# Altium footprint library L7.PcbLib: 6 footprints
Each footprint in its own frame and in the unit in brackets; x right, y up, seen from the top. Pads: shape width x height; smd on the part's side, far side on the other; paste and mask are expansions set on the pad; w line width, h text height; cw(c..) or ccw(c..) is an arc to the next point about the centre after c.
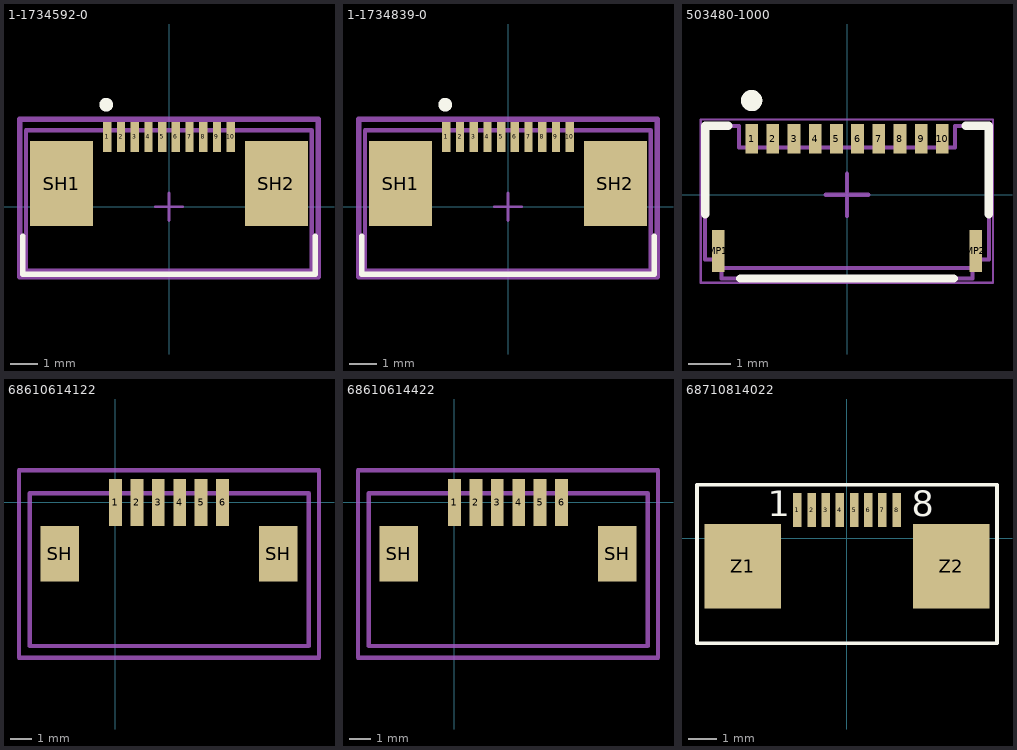
[diagram p0: the footprints below, top view; thin cyan lines are the x and y axes]

## 1-1734592-0 [mm] "TE Connectivity FC / FPC Board Connector, 0.5 mm, 10 Contacts, Receptacle, FPC Series, Surface Mount, Bottom"
pads (12):
  rect 0.3x1.1 smd paste+0 mask+0: 1(-2.25,2.55) 2(-1.75,2.55) 3(-1.25,2.55) 4(-0.75,2.55) 5(-0.25,2.55) 6(0.25,2.55) 7(0.75,2.55) 8(1.25,2.55) 9(1.75,2.55) 10(2.25,2.55)
  rect 2.3x3.1 smd paste+0 mask+0: SH1(-3.92,0.85) SH2(3.92,0.85)
Top Overlay:
  circle w0.25: c-2.29,3.725 r0.125
  lines w0.2: -5.34,-1.075 -5.34,-2.45 5.34,-2.45 5.34,-1.075
Assembly Top:
  lines w0.15: -5.215,-2.316 -5.215,2.794 5.207,2.794 5.207,-2.316 -5.215,-2.316
Courtyard Top:
  lines w0.1: -0.5,0 0.5,0 ; 0,-0.5 0,0.5
  lines w0.2: -5.44,-2.55 -5.44,3.2 5.44,3.2 5.44,-2.55 -5.44,-2.55
3D body "c-1-1734592-0-c-3d.stp": height 2.05, standoff 0, extent -5.215,-2.316 5.215,2.794

## 1-1734839-0 [mm] "TE Connectivity FC / FPC Board Connector, 0.5 mm, 10 Contacts, Receptacle, FPC Series, Surface Mount, Top"
pads (12):
  rect 0.3x1.1 smd paste+0 mask+0: 1(-2.25,2.55) 2(-1.75,2.55) 3(-1.25,2.55) 4(-0.75,2.55) 5(-0.25,2.55) 6(0.25,2.55) 7(0.75,2.55) 8(1.25,2.55) 9(1.75,2.55) 10(2.25,2.55)
  rect 2.3x3.1 smd paste+0 mask+0: SH1(-3.92,0.85) SH2(3.92,0.85)
Top Overlay:
  circle w0.25: c-2.29,3.725 r0.125
  lines w0.2: -5.34,-1.075 -5.34,-2.45 5.34,-2.45 5.34,-1.075
Mechanical 13:
  lines w0.15: -5.215,-2.316 5.207,-2.316 5.207,2.794 -5.215,2.794 -5.215,-2.316
Mechanical 15:
  lines w0.1: -0.5,0 0.5,0 ; 0,-0.5 0,0.5
  lines w0.2: -5.44,-2.55 -5.44,3.2 5.44,3.2 5.44,-2.55 -5.44,-2.55
Mechanical 17:
  text ".Designator" at -2.413,-0.127 h1
3D body "c-1-1734839-0-c-3d.stp": height 2.05, standoff 0, extent -5.215,-2.316 5.215,2.794

## 503480-1000 [mm] "FPC Connector, 10-Leads, Right Angle, Pitch 0.5 mm, Mated Height 1.0 mm, SMT"
height 1.907
pads (12):
  rect 0.3x0.7 smd: 1(-2.25,1.325) 2(-1.75,1.325) 3(-1.25,1.325) 4(-0.75,1.325) 5(-0.25,1.325) 6(0.25,1.325) 7(0.75,1.325) 8(1.25,1.325) 9(1.75,1.325) 10(2.25,1.325)
  rect 0.3x1 smd: MP1(-3.04,-1.325) MP2(3.04,-1.325)
Top Overlay:
  circle w0.25: c-2.25,2.225 r0.125
  lines w0.2: -3.35,-0.458 -3.35,1.625 -2.8,1.625 ; -2.519,-1.975 2.519,-1.975 ; 2.8,1.625 3.35,1.625 ; 3.35,-0.458 3.35,1.625
Mechanical 13:
  lines w0.1: -3.35,1.625 -3.35,-1.525 -2.96,-1.525 -2.96,-1.975 2.96,-1.975 2.96,-1.525 3.35,-1.525 3.35,1.625 2.55,1.625 ; -3.35,1.625 -2.55,1.625 -2.55,1.115 2.55,1.115 2.55,1.624 ; -2.96,-1.725 2.96,-1.725
Mechanical 15:
  lines w0.05: -3.45,-2.075 3.45,-2.075 3.45,1.775 -3.45,1.775 -3.45,-2.075
  lines w0.1: -0.5,0 0.5,0 ; 0,-0.5 0,0.5
3D body "5034801000.stp": height 1.91, standoff 0.01, extent -3.35,-1.975 3.35,1.625

## 68610614122 [mm]
pads (8):
  rect 0.6x2.2 smd mask+0.07: 1(0,0) 2(1,0) 3(2,0) 4(3,0) 5(4,0) 6(5,0)
  rect 1.8x2.6 smd mask+0.07: SH(-2.6,-2.4) SH(7.6,-2.4)
Assembly Top:
  lines w0.2: -4,-6.7 9.025,-6.7 9.025,0.425 -4,0.425 -4,-6.7
3D Body Top:
  lines w0.2: -4.5,-7.25 9.5,-7.25 9.5,1.5 -4.5,1.5 -4.5,-7.25
3D body "68610614122 (rev1).stp": height 3, standoff 0, extent -4,-6.7 9,0.4

## 68610614422 [mm]
pads (8):
  rect 0.6x2.2 smd mask+0.07: 1(0,0) 2(1,0) 3(2,0) 4(3,0) 5(4,0) 6(5,0)
  rect 1.8x2.6 smd mask+0.07: SH(-2.6,-2.4) SH(7.6,-2.4)
Assembly Top:
  lines w0.2: -4,-6.7 9.025,-6.7 9.025,0.425 -4,0.425 -4,-6.7
3D Body Top:
  lines w0.2: -4.5,-7.25 9.5,-7.25 9.5,1.5 -4.5,1.5 -4.5,-7.25
3D body "68610614422 (rev1).stp": height 3, standoff -0.01, extent -4,-6.75 9,0.35

## 68710814022 [mm] "08 pins"
height 2.1
pads (10):
  rect 0.3x1.2 smd: 1(-1.75,0.99) 2(-1.25,0.99) 3(-0.75,0.99) 4(-0.25,0.99) 5(0.25,0.99) 6(0.75,0.99) 7(1.25,0.99) 8(1.75,0.99)
  rect 2.7x3 smd: Z1(-3.68,-0.99) Z2(3.68,-0.99)
Top Overlay:
  lines w0.127: -5.3,-3.71 -5.3,1.89 5.3,1.89 5.3,-3.71 -5.3,-3.71
  text "1" at -2.794,0.771 h0.9
  text "8" at 2.286,0.771 h0.9
3D body "68710814022.stp": height 2.06, standoff -0.04, extent -5.2,-3.71 5.2,1.39